# EAGLE library part DS3231M (library SCK_custom)
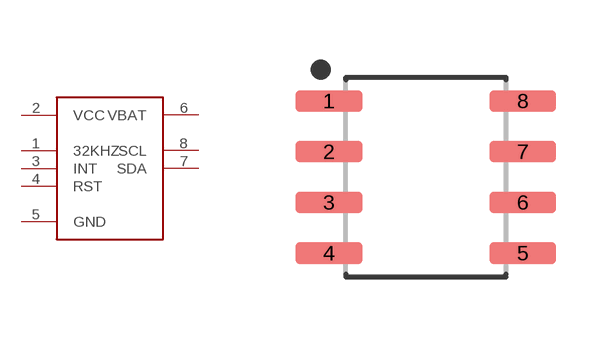
[diagram p0: symbol with the pads of SOIC127P600X175-8; footprint SOIC127P600X175-8]

Designator prefix -

## DS3231M  [SOIC127P600X175-8]
1  32KHZ
2  VCC  pwr
3  INT
4  RST
5  GND  pwr
6  VBAT  pwr
7  SDA
8  SCL

## Footprint SOIC127P600X175-8 (pad centres in mm)
8-SOIC, 1.27 mm pitch, 6.00 mm span, 4.90 X 3.90 X 1.75 mm body 8-pin SOIC package with 1.27 mm pitch, 6.00 mm span with body size 4.90 X 3.90 X 1.75 mm
smd 1.669 x 0.545: 1 -2.423,1.905; 2 -2.423,0.635; 3 -2.423,-0.635; 4 -2.423,-1.905; 5 2.423,-1.905; 6 2.423,-0.635; 7 2.423,0.635; 8 2.423,1.905